# Altium footprint library capacitor_smd.PcbLib: 120 footprints (part 8 of 8)
Each footprint in its own frame and in the unit in brackets; x right, y up, seen from the top. Pads: shape width x height; smd on the part's side, far side on the other; paste and mask are expansions set on the pad; w line width, h text height; cw(c..) or ccw(c..) is an arc to the next point about the centre after c.
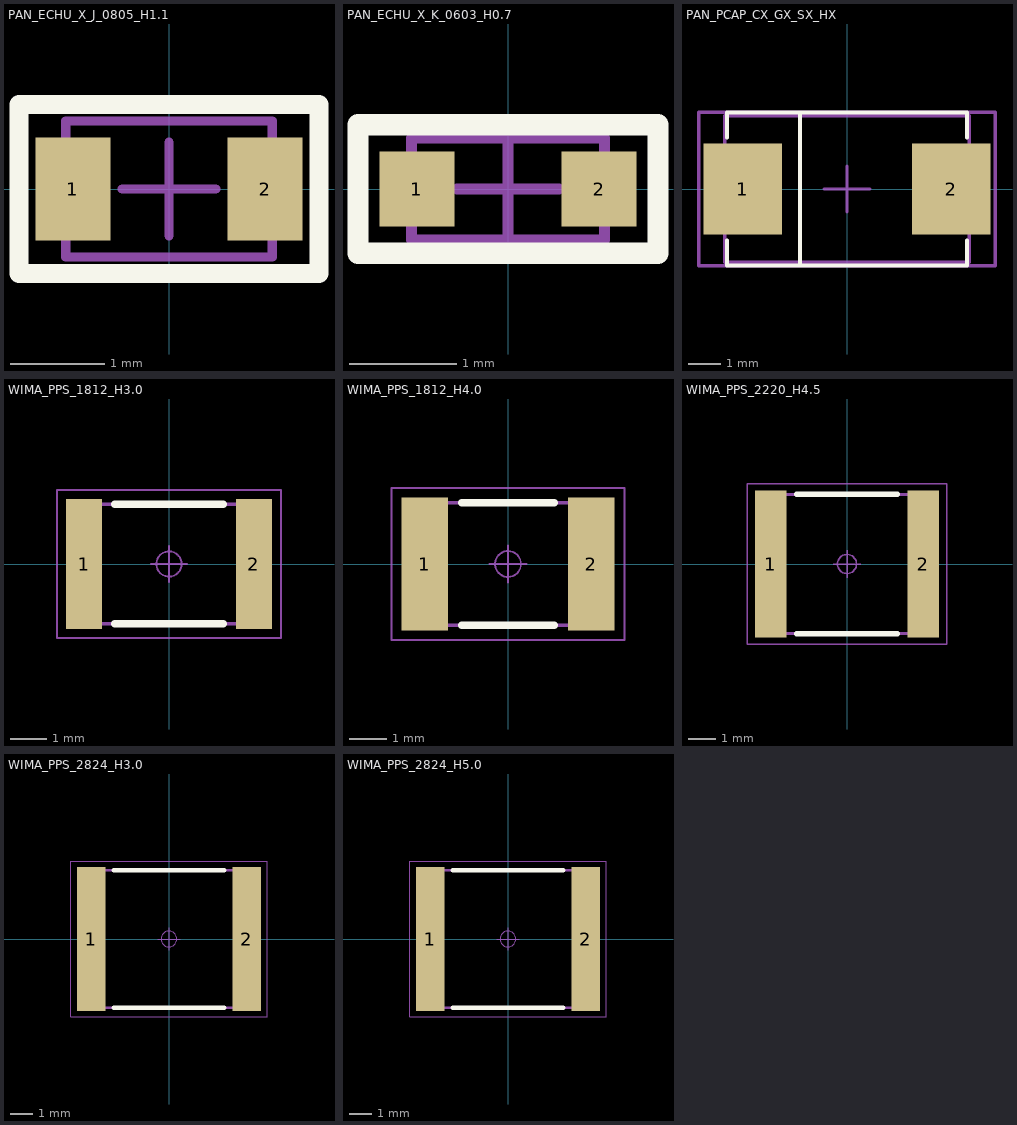
[diagram p7: the footprints below, top view; thin cyan lines are the x and y axes]

## PAN_ECHU_X_J_0805_H1.1 [mm]
height 1.1
pads (2):
  rect 0.8x1.1 smd: 1(-1.025,0) 2(1.025,0)
Top Overlay:
  lines w0.2: -1.6,-0.9 1.6,-0.9 1.6,0.9 -1.6,0.9 -1.6,-0.9
Mechanical 1:
  lines w0.1: -1.1,-0.725 -1.1,0.725 1.1,0.725 1.1,-0.725 -1.1,-0.725
Mechanical 15:
  lines w0.1: -0.5,0 0.5,0 ; 0,-0.5 0,0.5 ; -1.6,-0.9 -1.6,0.9 1.6,0.9 1.6,-0.9 -1.6,-0.9
3D body: height 1.1, standoff 0, extent -0.67,-0.725 0.67,0.725
3D body: height 1.1, standoff 0, extent -1.1,-0.725 -0.67,0.725
3D body: height 1.1, standoff 0, extent 0.67,-0.725 1.1,0.725

## PAN_ECHU_X_K_0603_H0.7 [mm]
height 0.7
pads (2):
  rect 0.7x0.7 smd: 1(-0.85,0) 2(0.85,0)
Top Overlay:
  lines w0.2: -1.4,-0.6 -1.4,0.6 1.4,0.6 1.4,-0.6 -1.4,-0.6
Mechanical 1:
  lines w0.1: -0.9,-0.475 0.9,-0.475 0.9,0.475 -0.9,0.475 -0.9,-0.475
Mechanical 15:
  lines w0.1: -0.475,0 0.475,0 ; 0,-0.475 0,0.475 ; -1.4,-0.6 1.4,-0.6 1.4,0.6 -1.4,0.6 -1.4,-0.6
3D body: height 0.7, standoff 0, extent 0.55,-0.475 0.9,0.475
3D body: height 0.7, standoff 0, extent -0.9,-0.475 -0.55,0.475
3D body: height 0.7, standoff 0, extent -0.55,-0.475 0.55,0.475

## PAN_PCAP_CX_GX_SX_HX [mm]
pads (2):
  rect 2.4x2.8 smd: 1(-3.2,0) 2(3.2,0)
Top Overlay:
  lines w0.127: -3.675,-1.575 -3.675,-2.35 3.675,-2.35 3.675,-1.575 ; -3.675,1.575 -3.675,2.35 3.675,2.35 3.675,1.575 ; -1.444,-2.325 -1.444,2.325
Mechanical 1:
  lines w0.1: -1.45,-2.25 -1.45,2.25 ; -3.75,-2.25 -3.75,2.25 3.75,2.25 3.75,-2.25 -3.75,-2.25
Mechanical 15:
  lines w0.1: -0.7,-0.001 0.7,0 ; 0.001,0.697 0.002,-0.703 ; -4.55,-2.35 4.55,-2.35 4.55,2.35 -4.55,2.35 -4.55,-2.35
3D body "PCAP_EEF_CX_PAN.step": height 2.16, standoff 0, extent -3.746,-2.248 3.746,2.248

## WIMA_PPS_1812_H3.0 [mm] "Chip Capacitor, 2-Leads, Body 4.8x3.3mm, IPC Medium Density"
height 1.6
pads (2):
  rect 1x3.6 smd: 1(-2.35,0) 2(2.35,0)
Top Overlay:
  lines w0.2: -1.5,-1.65 1.5,-1.65 ; -1.5,1.65 1.5,1.65
Mechanical 1:
  lines w0.1: -2.4,-1.65 -2.4,1.65 2.4,1.65 2.4,-1.65 -2.4,-1.65
Mechanical 15:
  circle w0.05: c0,0 r0.35
  lines w0.05: -0.5,0 0.5,0 ; 0,-0.5 0,0.5 ; -3.1,-2.05 -3.1,2.05 3.1,2.05 3.1,-2.05 -3.1,-2.05
3D body "CAPC4833X160N.stp": height 1.6, standoff 0, extent -2.4,-1.65 2.4,1.65

## WIMA_PPS_1812_H4.0 [mm] "Capacitor, Non-Polarized, Chip; 4.80mm L X 3.30mm W X 4.30mm H, IPC Medium Density"
height 4.3
pads (2):
  rect 1.25x3.6 smd: 1(-2.25,0) 2(2.25,0)
Top Overlay:
  lines w0.2: -1.25,-1.65 1.25,-1.65 ; -1.25,1.65 1.25,1.65
Mechanical 1:
  lines w0.1: -2.4,-1.65 2.4,-1.65 2.4,1.65 -2.4,1.65 -2.4,-1.65
Mechanical 15:
  circle w0.05: c0,0 r0.35
  lines w0.05: -0.5,0 0.5,0 ; 0,-0.5 0,0.5 ; -3.15,-2.05 3.15,-2.05 3.15,2.05 -3.15,2.05 -3.15,-2.05
3D body "CAPC4833X430N.stp": height 4.3, standoff 0, extent -2.55,-1.8 2.55,1.8

## WIMA_PPS_2220_H4.5 [mm] "Chip Capacitor, 2-Leads,Body 5.7x5.1mm, IPC Medium Density"
height 4.5
pads (2):
  rect 1.15x5.4 smd: 1(-2.8,0) 2(2.8,0)
Top Overlay:
  lines w0.2: -1.85,-2.55 1.85,-2.55 ; -1.85,2.55 1.85,2.55
Mechanical 1:
  lines w0.1: -2.85,-2.55 -2.85,2.55 2.85,2.55 2.85,-2.55 -2.85,-2.55
Mechanical 15:
  circle w0.05: c0,0 r0.35
  lines w0.05: -0.5,0 0.5,0 ; 0,-0.5 0,0.5 ; -3.65,-2.95 -3.65,2.95 3.65,2.95 3.65,-2.95 -3.65,-2.95
3D body "CAPC5751X450N.stp": height 4.5, standoff 0, extent -2.85,-2.55 2.85,2.55

## WIMA_PPS_2824_H3.0 [mm] "Capacitor, Non-Polarized, Chip; 7.2mm L X 6.1mm W X 3mm H"
height 3.3
pads (2):
  rect 1.25x6.4 smd: 1(-3.45,0) 2(3.45,0)
Top Overlay:
  lines w0.2: -2.45,-3.05 2.45,-3.05 ; -2.45,3.05 2.45,3.05
Mechanical 1:
  lines w0.1: -3.6,-3.05 -3.6,3.05 3.6,3.05 3.6,-3.05 -3.6,-3.05
Mechanical 15:
  circle w0.05: c0,0 r0.35
  lines w0.05: -0.5,0 0.5,0 ; 0,-0.5 0,0.5 ; -4.35,-3.45 -4.35,3.45 4.35,3.45 4.35,-3.45 -4.35,-3.45
3D body "CAPC7261X330N.stp": height 3.3, standoff 0, extent -3.6,-3.05 3.6,3.05

## WIMA_PPS_2824_H5.0 [mm] "Capacitor, Non-Polarized, Chip; 7.2mm L X 6.1mm W X 5mm H"
height 5.3
pads (2):
  rect 1.25x6.4 smd: 1(-3.45,0) 2(3.45,0)
Top Overlay:
  lines w0.2: -2.45,-3.05 2.45,-3.05 ; -2.45,3.05 2.45,3.05
Mechanical 1:
  lines w0.1: -3.6,-3.05 3.6,-3.05 3.6,3.05 -3.6,3.05 -3.6,-3.05
Mechanical 15:
  circle w0.05: c0,0 r0.35
  lines w0.05: -0.5,0 0.5,0 ; 0,-0.5 0,0.5 ; -4.35,-3.45 4.35,-3.45 4.35,3.45 -4.35,3.45 -4.35,-3.45
3D body "CAPC7261X530N.stp": height 5.3, standoff 0, extent -3.6,-3.05 3.6,3.05